# Altium footprint library STM32F103C8T6核心板.PcbLib: 23 footprints (part 2 of 2)
Each footprint in its own frame and in the unit in brackets; x right, y up, seen from the top. Pads: shape width x height; smd on the part's side, far side on the other; paste and mask are expansions set on the pad; w line width, h text height; cw(c..) or ccw(c..) is an arc to the next point about the centre after c.
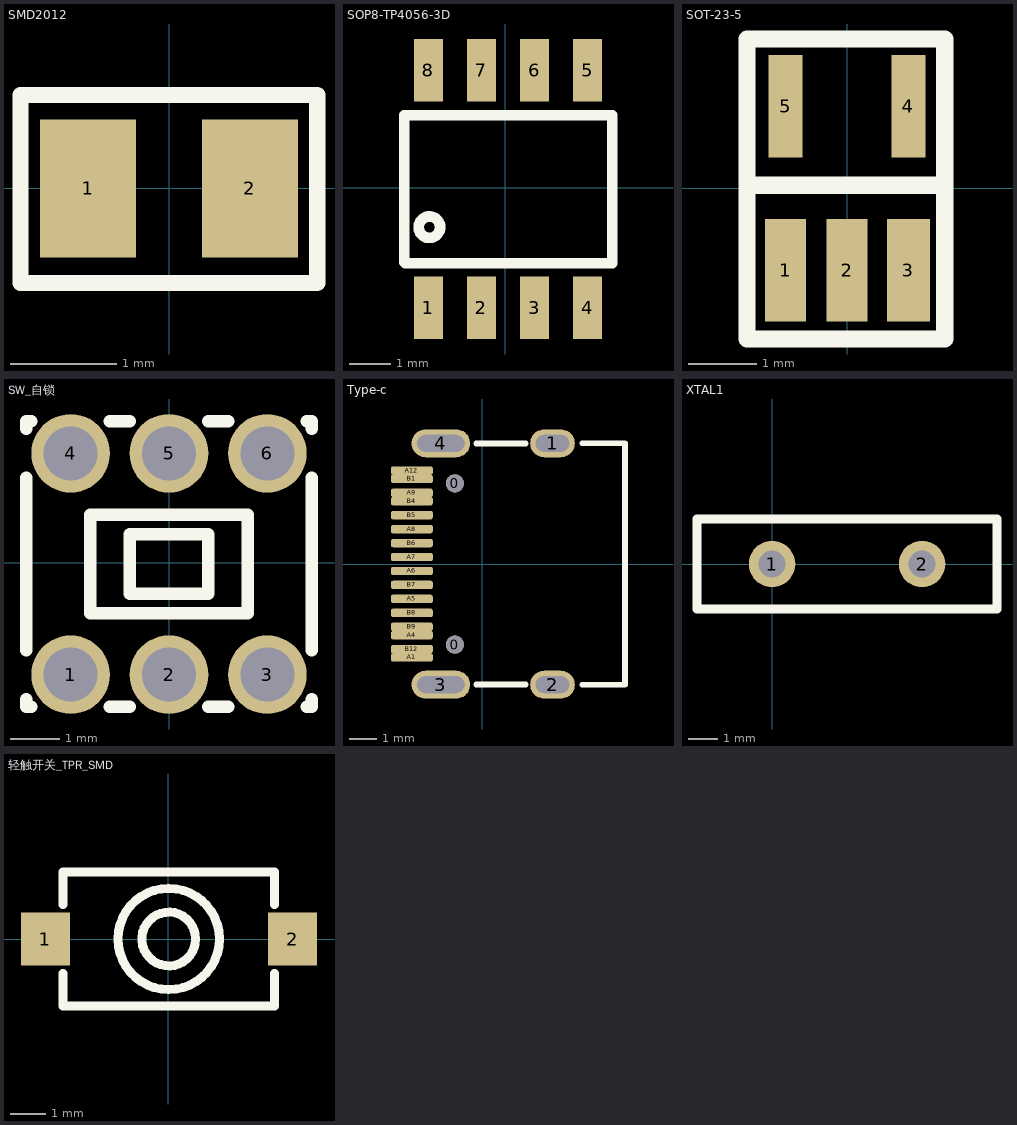
[diagram p1: the footprints below, top view; thin cyan lines are the x and y axes]

## SMD2012 [mm]
pads (2):
  rect 0.9x1.3 smd: 1(-0.762,0) 2(0.762,0)
Top Overlay:
  lines w0.152: -1.398,-0.879 -1.398,0.879 1.396,0.879 1.396,-0.889 -1.398,-0.889 -1.397,-0.635
3D body "32.768K晶振.STEP": height 0.45, standoff 0, extent -1.025,-0.599 0.975,0.65

## SOP8-TP4056-3D [mm]
pads (8):
  rect 0.7x1.5 smd: 1(-1.834,-2.867) 2(-0.564,-2.867) 3(0.706,-2.867) 4(1.976,-2.867) 5(1.976,2.816) 6(0.706,2.816) 7(-0.564,2.816) 8(-1.834,2.816)
Top Overlay:
  circle w0.254: c-1.812,-0.94 r0.257
  lines w0.254: 2.566,-1.803 2.566,1.742 -2.413,1.742 -2.413,-1.778 -2.388,-1.803 2.565,-1.803 ; 2.565,-1.803 2.566,-1.803
3D body "SP3485_so8.STEP": height 1.43, standoff -0.03, extent -2.311,-2.946 2.489,2.854
3D body "SO-8.STEP": height 1.7, standoff 0, extent -2.323,-3.025 2.577,2.975

## SOT-23-5 [mm]
height 4.32
pads (5):
  rect 0.6x1.5 smd: 1(-0.9,-1.2) 2(0,-1.2)
  rect 0.63x1.5 smd: 3(0.9,-1.2)
  rect 0.5x1.5 smd: 4(0.9,1.2) 5(-0.9,1.2)
Top Overlay:
  lines w0.254: -1.466,0.041 1.43,0.041 ; -1.466,-2.21 -1.466,2.184 1.43,2.184 1.43,-2.21 -1.466,-2.21
3D body "User Library-SOT23-5.STEP": height 1.09, standoff -0.01, extent -1.452,-1.426 1.448,1.375

## SW_自锁 [mm]
pads (6):
  round 1.6 hole 1.1: 1(-2,-2.275) 2(0,-2.275) 3(2,-2.275) 4(-2,2.225) 5(0,2.225) 6(2,2.225)
Top Overlay:
  lines w0.254: -2.9,-2.776 -2.9,-2.925 -2.8,-2.925 ; -2.9,-1.775 -2.9,1.724 ; -2.9,2.725 -2.9,2.875 -2.8,2.875 ; -1.2,-2.925 -0.8,-2.925 ; -1.2,2.875 -0.8,2.875 ; 0.8,-2.925 1.2,-2.925 ; 0.8,2.875 1.2,2.875 ; 2.8,-2.925 2.9,-2.925 2.9,-2.776 ; 2.8,2.875 2.9,2.875 2.9,2.725 ; 2.9,-1.775 2.9,1.724 ; -1.6,-1.025 -1.6,0.975 1.6,0.975 1.6,-1.025 -1.6,-1.025 ; -0.8,-0.625 -0.8,0.375 -0.8,0.575 0.8,0.575 0.8,-0.625 -0.8,-0.625
3D body "自锁开关.STEP": height 10, standoff -3.6, extent -2.9,-2.87 2.9,2.93

## Type-c [mm]
pads (22):
  round 0.65 hole 0.65: 0(-0.98,-2.89) 0(-0.98,2.89)
  oval 1.6x1 hole 0.6 slot 1.2 at 0 deg: 1(2.52,4.325) 2(2.52,-4.325)
  oval 2.1x1 hole 0.6 slot 1.7 at 0 deg: 3(-1.48,-4.325) 4(-1.48,4.325)
  rrect50% 1.5x0.3 smd: A1(-2.52,-3.35) A4(-2.52,-2.55) A5(-2.52,-1.25) A6(-2.52,-0.25) A7(-2.52,0.25) A8(-2.52,1.25) A9(-2.52,2.55) A12(-2.52,3.35) B1(-2.52,3.05) B4(-2.52,2.25) B5(-2.52,1.75) B6(-2.52,0.75) B7(-2.52,-0.75) B8(-2.52,-1.75) B9(-2.52,-2.25) B12(-2.52,-3.05)
Top Overlay:
  lines w0.203: -0.218,-4.318 1.56,-4.318 ; -0.218,4.318 1.56,4.318 ; 3.592,-4.325 5.12,-4.325 5.12,4.325 3.592,4.325
3D body "1.step": height 3.26, standoff -1, extent -2.568,-4.475 5.182,4.475

## XTAL1 [mil]
height 170.08
pads (2):
  round 62 hole 35.43: 1(0,0) 2(200,0)
Top Overlay:
  lines w12: -100,-60 -100,60 300,60 300,-60 -100,-60
3D body "SW3dPS-HP49US.STEP": height 137.8, standoff -157.48, extent -120.43,-91 326.43,92.07

## 轻触开关_TPR_SMD [mm]
pads (2):
  rect 1.4x1.5 smd: 1(-3.475,0) 2(3.526,0)
Top Overlay:
  circle w0.254: c0.017,0 r0.762
  circle w0.254: c0.017,0 r1.437
  lines w0.254: -2.983,-0.981 -2.983,-1.9 3.017,-1.9 3.017,-0.981 ; -2.983,0.981 -2.983,1.9 3.017,1.9 3.017,0.981